# Altium footprint library SIM908.PcbLib: 1 footprints
Each footprint in its own frame and in the unit in brackets; x right, y up, seen from the top. Pads: shape width x height; smd on the part's side, far side on the other; paste and mask are expansions set on the pad; w line width, h text height; cw(c..) or ccw(c..) is an arc to the next point about the centre after c.
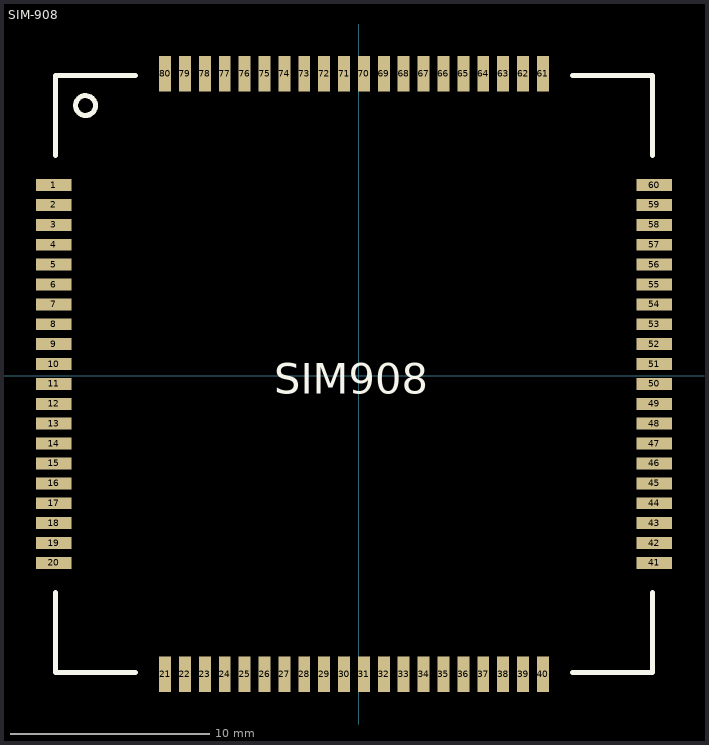
[diagram p0: the footprint, top view; thin cyan lines are the x and y axes]

## SIM-908 [mm]
pads (80):
  rect 1.8x0.6 smd: 1(-15.336,9.598) 2(-15.336,8.598) 3(-15.336,7.598) 4(-15.336,6.598) 5(-15.336,5.598) 6(-15.336,4.598) 7(-15.336,3.598) 8(-15.336,2.598) 9(-15.336,1.598) 10(-15.336,0.598) 11(-15.336,-0.402) 12(-15.336,-1.402) 13(-15.336,-2.402) 14(-15.336,-3.402) 15(-15.336,-4.402) 16(-15.336,-5.402) 17(-15.336,-6.402) 18(-15.336,-7.402) 19(-15.336,-8.402) 20(-15.336,-9.402) 41(14.864,-9.402) 42(14.864,-8.402) 43(14.864,-7.402) 44(14.864,-6.402) 45(14.864,-5.402) 46(14.864,-4.402) 47(14.864,-3.402) 48(14.864,-2.402) 49(14.864,-1.402) 50(14.864,-0.402) 51(14.864,0.598) 52(14.864,1.598) 53(14.864,2.598) 54(14.864,3.598) 55(14.864,4.598) 56(14.864,5.598) 57(14.864,6.598) 58(14.864,7.598) 59(14.864,8.598) 60(14.864,9.598)
  rect 0.6x1.8 smd: 21(-9.736,-15.002) 22(-8.736,-15.002) 23(-7.736,-15.002) 24(-6.736,-15.002) 25(-5.736,-15.002) 26(-4.736,-15.002) 27(-3.736,-15.002) 28(-2.736,-15.002) 29(-1.736,-15.002) 30(-0.736,-15.002) 31(0.264,-15.002) 32(1.264,-15.002) 33(2.264,-15.002) 34(3.264,-15.002) 35(4.264,-15.002) 36(5.264,-15.002) 37(6.264,-15.002) 38(7.264,-15.002) 39(8.264,-15.002) 40(9.264,-15.002) 61(9.264,15.198) 62(8.264,15.198) 63(7.264,15.198) 64(6.264,15.198) 65(5.264,15.198) 66(4.264,15.198) 67(3.264,15.198) 68(2.264,15.198) 69(1.264,15.198) 70(0.264,15.198) 71(-0.736,15.198) 72(-1.736,15.198) 73(-2.736,15.198) 74(-3.736,15.198) 75(-4.736,15.198) 76(-5.736,15.198) 77(-6.736,15.198) 78(-7.736,15.198) 79(-8.736,15.198) 80(-9.736,15.198)
Top Overlay:
  circle w0.254: c-13.736,13.598 r0.5
  lines w0.254: -15.236,-10.902 -15.236,-14.902 -11.236,-14.902 ; -15.236,11.098 -15.236,15.098 -11.236,15.098 ; 10.764,-14.902 14.764,-14.902 14.764,-10.902 ; 10.764,15.098 14.764,15.098 14.764,11.098
  text "SIM908" at -4.236,-0.902 h1.52
3D body: height 3.39, standoff 0.19, extent -15.298,-14.89 14.702,15.11